# Altium integrated library ECS-80-18-30B-JEM-TR.IntLib: 1 symbol
Pins are listed as number, name and electrical type; pins without a type are passive.

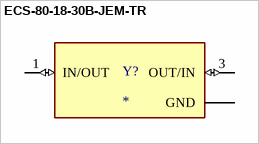
[diagram p0: symbol ECS-80-18-30B-JEM-TR]

## ECS-80-18-30B-JEM-TR
designator Y?
8 MHz Â±20ppm Crystal 18pF 100 Ohms 4-SMD, No Lead; MF: ECS Inc.; MP: ECS-80-18-30B-JEM-TR; SnapEDA_Link: https://www.snapeda.com/parts/ECS-80-18-30B-JEM-TR/ECS/view-part/?ref=snap; Package: ECX-53B-30B-4 ECS; Value: *; Check_prices: https://www.snapeda.com/parts/ECS-80-18-30B-JEM-TR/ECS/view-part/?ref=eda
footprint XTAL_ECS-80-18-30B-JEM-TR
pins: 1 IN/OUT (io), 2 GND (power), 3 OUT/IN (io), 4 GND (power)